# Altium schematic symbol library SnapEDAsch.SchLib: 1 symbol
Pins are listed as number, name and electrical type; pins without a type are passive.

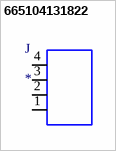
[diagram p0: symbol 665104131822]

## 665104131822
designator J
Connector Header Surface Mount, Right Angle 4 position 0.039 (1.00mm); MP: 665104131822; MF: Wurth Electronics; Package: None; Price: None; Availability: Unavailable; SnapEDA_Link: https://www.snapeda.com/parts/665104131822/Wurth%20Electronics%20Inc./view-part/2395929/?ref=snap; Value: *
footprint 665104131822
pins: 1 4, 2 3, 3 2, 4 1